# EAGLE library part 2624-3104 (library con-wago_2624)
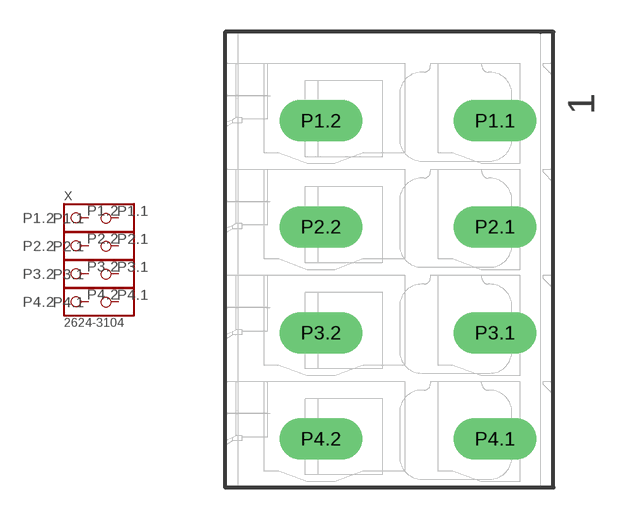
[diagram p31: symbol with the pads of P-2624-3104; footprint P-2624-3104]

Designator prefix X

## 2624-3104  [P-2624-3104]
P1.1  P1.1
P1.2  P1.2
P2.1  P2.1
P2.2  P2.2
P3.1  P3.1
P3.2  P3.2
P4.1  P4.1
P4.2  P4.2

## Footprint P-2624-3104 (pad centres in mm)
drill 1.3 pad 1.93 long: P1.1 0,-2.7; P1.2 -8.2,-2.7; P2.1 0,-7.7; P2.2 -8.2,-7.7; P3.1 0,-12.7; P3.2 -8.2,-12.7; P4.1 0,-17.7; P4.2 -8.2,-17.7